# Altium schematic symbol library 4700uF_50V.SCHLIB: 1 symbol
Pins are listed as number, name and electrical type; pins without a type are passive.

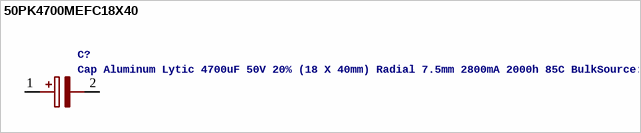
[diagram p0: symbol 50PK4700MEFC18X40]

## 50PK4700MEFC18X40
designator C?, comment Cap Aluminum Lytic 4700uF 50V 20% (18 X 40mm) Radial 7.5mm 2800mA 2000h 85C BulkSource:  Datasheet
Manufacturer_Name: Rubycon; GateName_1: G$1; SymbolName_1: 50PK4700MEFC18X40; LibraryName: 50PK4700MEFC18X40; DeviceSetName: 50PK4700MEFC18X40; Package: CAPPRD750W80D1850H4150; Manufacturer_Part_Number: 50PK4700MEFC18X40; Mouser_Part_Number: 232-50PK4700MEFC18X4; Mouser_Price-Stock: https://www.mouser.com/Search/Refine.aspx?Keyword=232-50PK4700MEFC18X4; Height: 41.5mm
footprint CAPPRD750W80D1850H4150
pins: 1 +, 2 -